# EAGLE library part 418217270903 (library Wurth_Elektronik_Electromechanic_Switch_rev17b)
WS-RA 2.54 mm right angled compact THT Dip Switch with raised actuator, 3 Pole
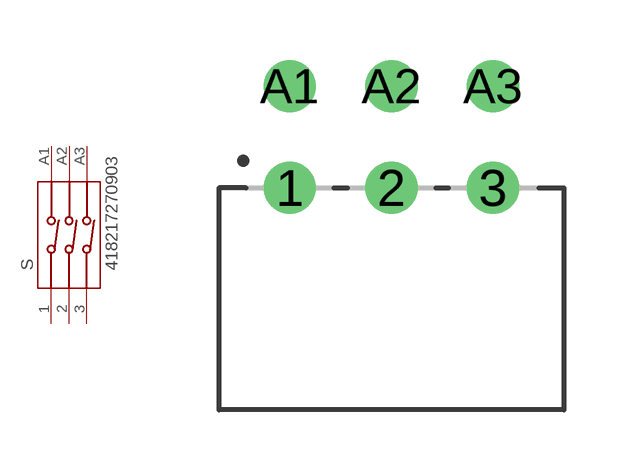
[diagram p50: symbol with the pads of 418217270903; footprint 418217270903]

Designator prefix S

## 418217270903  [418217270903]
1  1  pas
2  2  pas
3  3  pas
A1  A1  pas
A2  A2  pas
A3  A3  pas

## Footprint 418217270903 (pad centres in mm)
WS-RA 2.54 mm right angled compact THT Dip Switch with raised actuator, 3 Pole
drill 0.8: 1 -2.54,-1.27; 2 0,-1.27; 3 2.54,-1.27; A1 -2.54,1.27; A2 0,1.27; A3 2.54,1.27